# Altium footprint library My.PcbLib: 17 footprints (part 1 of 2)
Each footprint in its own frame and in the unit in brackets; x right, y up, seen from the top. Pads: shape width x height; smd on the part's side, far side on the other; paste and mask are expansions set on the pad; w line width, h text height; cw(c..) or ccw(c..) is an arc to the next point about the centre after c.
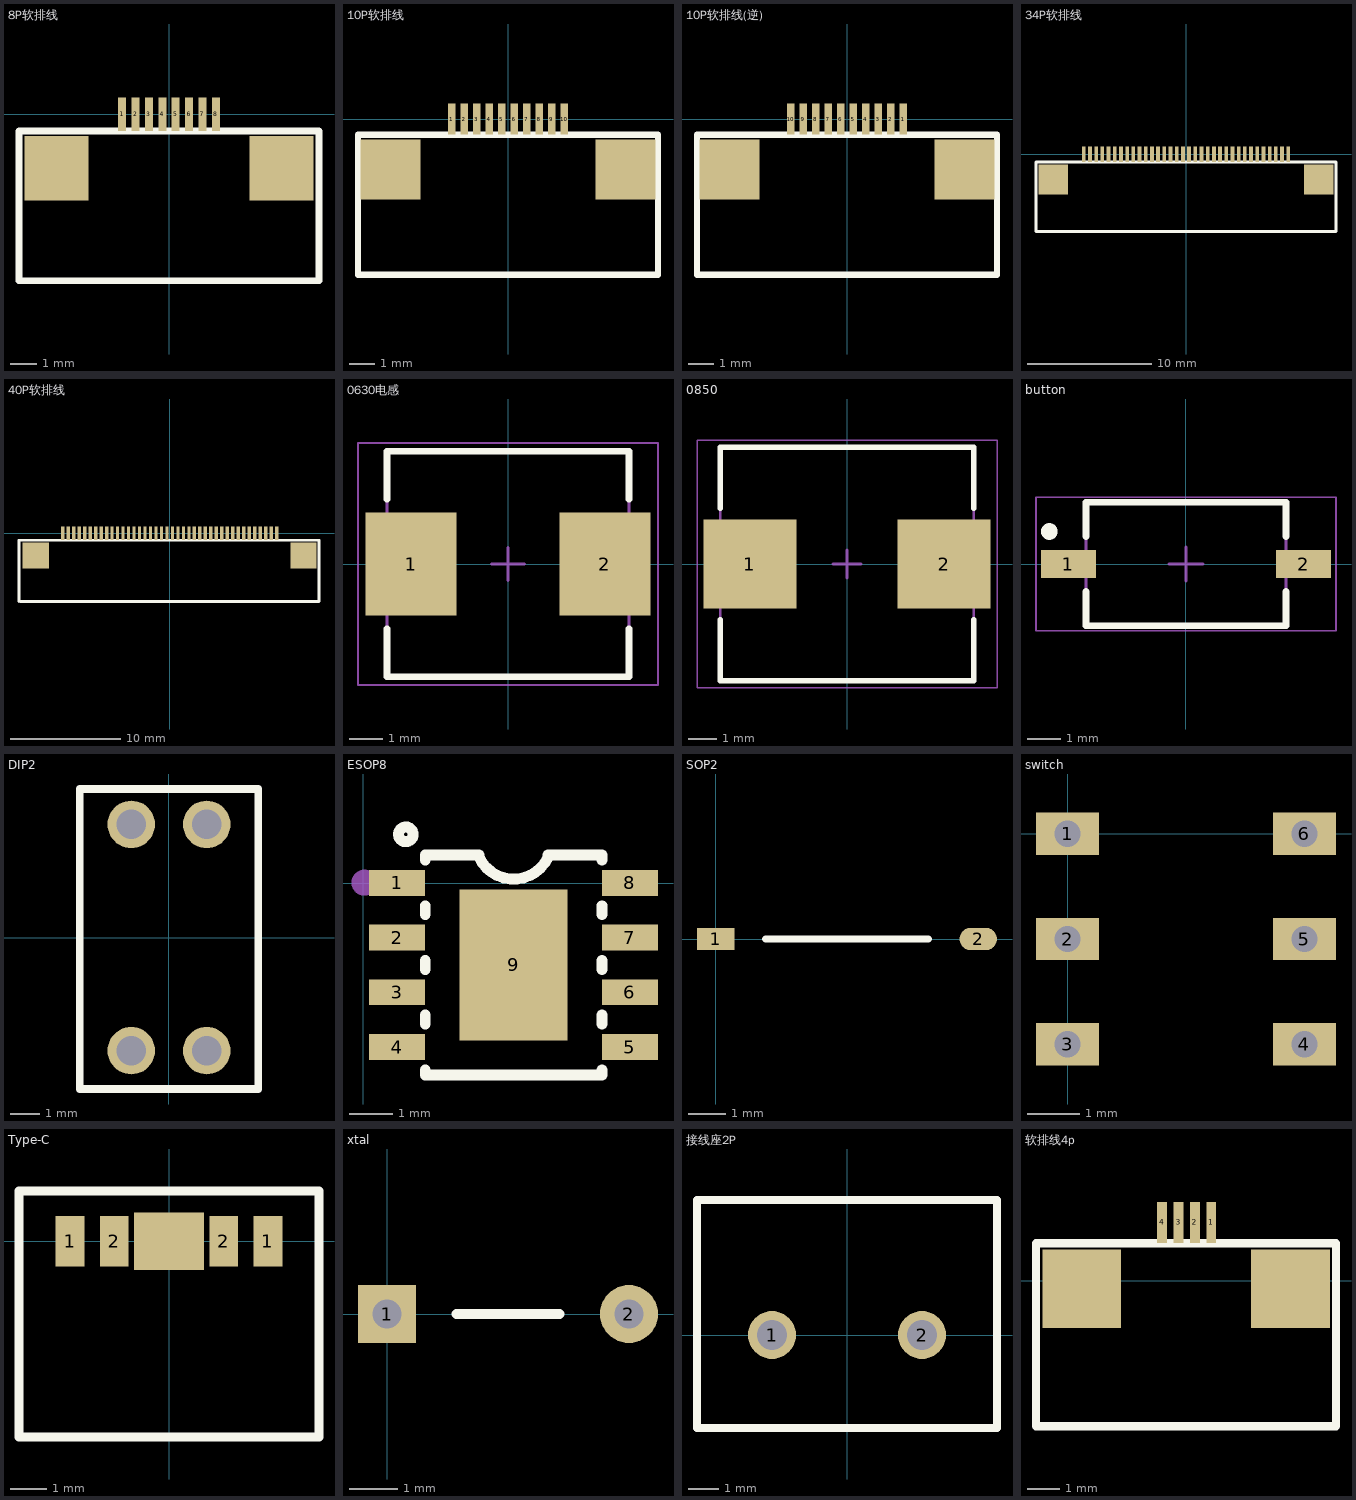
[diagram p0: the footprints below, top view; thin cyan lines are the x and y axes]

## 8P软排线 [mm] "8P母座"
pads (10):
  rect 0.3x1.25 smd: 1(-1.75,0) 2(-1.25,0) 3(-0.75,0) 4(-0.25,0) 5(0.25,0) 6(0.75,0) 7(1.25,0) 8(1.75,0)
  rect 2.4x2.4 smd: ""(-4.2,-2.025) ""(4.2,-2.025)
Top Overlay:
  lines w0.254: -5.6,-6.223 5.6,-6.223 5.6,-0.635 -5.6,-0.635 -5.6,-6.223

## 10P软排线 [mm] "10P"
pads (12):
  rect 0.3x1.25 smd: 1(-2.25,0) 2(-1.75,0) 3(-1.25,0) 4(-0.75,0) 5(-0.25,0) 6(0.25,0) 7(0.75,0) 8(1.25,0) 9(1.75,0) 10(2.25,0)
  rect 2.4x2.4 smd: ""(-4.7,-2.025) ""(4.7,-2.025)
Top Overlay:
  lines w0.254: -6,-6.223 -6,-0.635 6,-0.635 6,-6.223 -6,-6.223

## 10P软排线(逆) [mm] "10P"
pads (12):
  rect 0.3x1.25 smd: 1(2.25,0) 2(1.75,0) 3(1.25,0) 4(0.75,0) 5(0.25,0) 6(-0.25,0) 7(-0.75,0) 8(-1.25,0) 9(-1.75,0) 10(-2.25,0)
  rect 2.4x2.4 smd: ""(-4.7,-2.025) ""(4.7,-2.025)
Top Overlay:
  lines w0.254: -6,-6.223 6,-6.223 6,-0.635 -6,-0.635 -6,-6.223

## 34P软排线 [mm] "34P"
pads (36):
  rect 0.3x1.25 smd: 1(-8.25,0) 2(-7.75,0) 3(-7.25,0) 4(-6.75,0) 5(-6.25,0) 6(-5.75,0) 7(-5.25,0) 8(-4.75,0) 9(-4.25,0) 10(-3.75,0) 11(-3.25,0) 12(-2.75,0) 13(-2.25,0) 14(-1.75,0) 15(-1.25,0) 16(-0.75,0) 17(-0.25,0) 18(0.25,0) 19(0.75,0) 20(1.25,0) 21(1.75,0) 22(2.25,0) 23(2.75,0) 24(3.25,0) 25(3.75,0) 26(4.25,0) 27(4.75,0) 28(5.25,0) 29(5.75,0) 30(6.25,0) 31(6.75,0) 32(7.25,0) 33(7.75,0) 34(8.25,0)
  rect 2.4x2.4 smd: ""(-10.7,-2.025) ""(10.7,-2.025)
Top Overlay:
  lines w0.254: -12.1,-6.223 -12.1,-0.635 12.1,-0.635 12.1,-6.223 -12.1,-6.223

## 40P软排线 [mm] "40P"
pads (42):
  rect 0.3x1.25 smd: 1(-9.75,0) 2(-9.25,0) 3(-8.75,0) 4(-8.25,0) 5(-7.75,0) 6(-7.25,0) 7(-6.75,0) 8(-6.25,0) 9(-5.75,0) 10(-5.25,0) 11(-4.75,0) 12(-4.25,0) 13(-3.75,0) 14(-3.25,0) 15(-2.75,0) 16(-2.25,0) 17(-1.75,0) 18(-1.25,0) 19(-0.75,0) 20(-0.25,0) 21(0.25,0) 22(0.75,0) 23(1.25,0) 24(1.75,0) 25(2.25,0) 26(2.75,0) 27(3.25,0) 28(3.75,0) 29(4.25,0) 30(4.75,0) 31(5.25,0) 32(5.75,0) 33(6.25,0) 34(6.75,0) 35(7.25,0) 36(7.75,0) 37(8.25,0) 38(8.75,0) 39(9.25,0) 40(9.75,0)
  rect 2.4x2.4 smd: ""(-12.2,-2.025) ""(12.2,-2.025)
Top Overlay:
  lines w0.254: -13.735,-6.223 -13.735,-0.635 ; -13.6,-6.223 13.6,-6.223 ; -13.6,-0.635 13.6,-0.635 ; 13.608,-6.223 13.608,-0.635

## 0630电感 [mm] "Precision Wire Wound Inductor, 2-Leads, Body 7.30x6.60mm, IPC Medium Density"
height 3
pads (2):
  rect 2.75x3.1 smd: 1(-2.925,0) 2(2.925,0)
Top Overlay:
  lines w0.2: -3.65,-1.95 -3.65,-3.4 3.65,-3.4 3.65,-1.95 ; -3.65,1.95 -3.65,3.4 3.65,3.4 3.65,1.95
Mechanical 13:
  lines w0.1: -3.65,-3.4 3.65,-3.4 3.65,3.4 -3.65,3.4 -3.65,-3.4
Mechanical 15:
  lines w0.05: -4.525,-3.65 4.525,-3.65 4.525,3.65 -4.525,3.65 -4.525,-3.65
  lines w0.1: -0.5,0 0.5,0 ; 0,-0.5 0,0.5
3D body: height 3, standoff 0, extent -3.65,-3.4 3.65,3.4

## 0850 [mm] "电感"
height 5
pads (2):
  rect 3.3x3.15 smd: 1(-3.45,0) 2(3.45,0)
Top Overlay:
  lines w0.2: -4.5,-1.975 -4.5,-4.15 4.5,-4.15 4.5,-1.975 ; -4.5,1.975 -4.5,4.15 4.5,4.15 4.5,1.975
Mechanical 13:
  lines w0.1: -4.5,-4.15 4.5,-4.15 4.5,4.15 -4.5,4.15 -4.5,-4.15
Mechanical 15:
  lines w0.05: -5.325,-4.4 5.325,-4.4 5.325,4.4 -5.325,4.4 -5.325,-4.4
  lines w0.1: -0.5,0 0.5,0 ; 0,-0.5 0,0.5
3D body: height 5, standoff 0, extent -4.5,-4.15 4.5,4.15

## button [mm] "SODFL, 2-Leads, Body 3.70x8.00mm, IPC Medium Density"
height 2.5
pads (2):
  rect 1.65x0.85 smd: 1(-3.525,0) 2(3.525,0)
Top Overlay:
  circle w0.25: c-4.1,0.975 r0.125
  lines w0.2: -3,-0.825 -3,-1.85 3,-1.85 3,-0.825 ; -3,0.825 -3,1.85 3,1.85 3,0.825
Mechanical 13:
  lines w0.1: -3,-1.85 3,-1.85 3,1.85 -3,1.85 -3,-1.85
Mechanical 15:
  lines w0.05: -4.5,-2 4.5,-2 4.5,2 -4.5,2 -4.5,-2
  lines w0.1: -0.5,0 0.5,0 ; 0,-0.5 0,0.5
3D body: height 2.5, standoff 0, extent -3,-1.85 3,1.85

## DIP2 [mm]
pads (4):
  round 1.6 hole 1: ""(-1.27,-3.81) ""(-1.27,3.81) ""(1.27,-3.81) ""(1.27,3.81)
Top Overlay:
  lines w0.254: -3,-0.1 -3,0 ; 3,-0.1 3,0 ; -3,-5.1 3,-5.1 3,5 -3,5 -3,-5.1

## ESOP8 [mm]
pads (9):
  rect 1.3x0.6 smd: 1(0.783,0.01) 2(0.783,-1.26) 3(0.783,-2.53) 4(0.783,-3.8) 5(6.183,-3.8) 6(6.183,-2.53) 7(6.183,-1.26) 8(6.183,0.01)
  rect 2.5x3.5 smd: 9(3.483,-1.895)
Top Overlay:
  circle w0.254: c0.983,1.135 r0.17
  lines w0.254: 1.433,-4.331 1.433,-4.445 5.533,-4.445 5.533,-4.331 ; 1.433,-3.269 1.433,-3.061 ; 1.433,-1.999 1.433,-1.791 ; 1.433,-0.729 1.433,-0.521 ; 1.433,0.541 1.433,0.655 2.683,0.655 ; 2.683,0.605 ccw(c3.483,0.98) 4.283,0.605 ; 4.283,0.655 5.533,0.655 5.533,0.541 ; 5.533,-3.269 5.533,-3.061 ; 5.533,-1.999 5.533,-1.791 ; 5.533,-0.729 5.533,-0.521
Mechanical 15:
  circle w0.3: c0.023,0.015 r0.15

## SOP2 [mm]
pads (2):
  rect 1x0.6 smd: 1(0,0)
  oval 1x0.6 smd: 2(7,0)
Top Overlay:
  lines w0.2: 1.335,0 5.665,0 3.5,0 1.335,0

## switch [mm]
pads (6):
  rect 1.2x0.8 hole 0.5 square: 1(0,0) 2(0,-2) 3(0,-4) 4(4.5,-4) 5(4.5,-2) 6(4.5,0)

## Type-C [mm] "贴片母头"
pads (10):
  rect 0.8x1.4 smd: 1(-2.75,0) 1(2.75,0) 2(-1.52,0) 2(1.52,0) ""(-0.5,0) ""(0.5,0)
  rect 1.95x1.2 smd: ""(0,0) ""(0,0)
  rect 1.95x1.6 smd: ""(0,0) ""(0,0)
Top Overlay:
  lines w0.254: -4.17,1.36 -4.17,-5.44 4.17,-5.44 4.17,1.36 ; -4.17,1.397 0,1.397 4.17,1.397

## xtal [mm]
pads (2):
  rect 1.2x1.2 hole 0.6: 1(0,0)
  round 1.2 hole 0.6: 2(5,0)
Top Overlay:
  lines w0.2: 1.435,0 2.5,0 3.565,0 1.435,0

## 接线座2P [mm]
pads (2):
  round 1.6 hole 1: 1(-2.5,0) 2(2.5,0)
Top Overlay:
  lines w0.254: -5,-3.1 0,-3.1 5,-3.1 5,4.5 0,4.5 -5,4.5 -5,-3.1

## 软排线4p [mm]
pads (6):
  rect 0.3x1.25 smd: 1(11.688,1.778) 2(11.188,1.778) 3(10.688,1.778) 4(10.188,1.778)
  rect 2.4x2.4 smd: ""(7.738,-0.247) ""(14.106,-0.247)
Top Overlay:
  lines w0.254: 6.338,-4.445 6.338,1.143 15.494,1.143 15.494,-4.445 6.338,-4.445